# Altium integrated library SAMTEC-BCS-104-X-S-TE.IntLib: 1 symbol
Pins are listed as number, name and electrical type; pins without a type are passive.

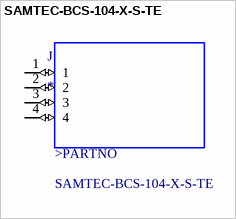
[diagram p0: symbol SAMTEC-BCS-104-X-S-TE]

## SAMTEC-BCS-104-X-S-TE
designator J
4 Position Receptacle Connector Through Hole; MP: BCS-104-LM-S-TE; MF: Samtec; Price: None; Value: *; Package: None; SnapEDA_Link: https://www.snapeda.com/parts/BCS-104-LM-S-TE/Samtec/view-part/3331485/?ref=snap; Availability: Unavailable
footprint SAMTEC-BCS-104-X-S-TE
pins: 1 (io), 2 (io), 3 (io), 4 (io)
text: >PARTNO